# Altium footprint library JACK.PCBLIB: 92 footprints (part 4 of 6)
Each footprint in its own frame and in the unit in brackets; x right, y up, seen from the top. Pads: shape width x height; smd on the part's side, far side on the other; paste and mask are expansions set on the pad; w line width, h text height; cw(c..) or ccw(c..) is an arc to the next point about the centre after c.
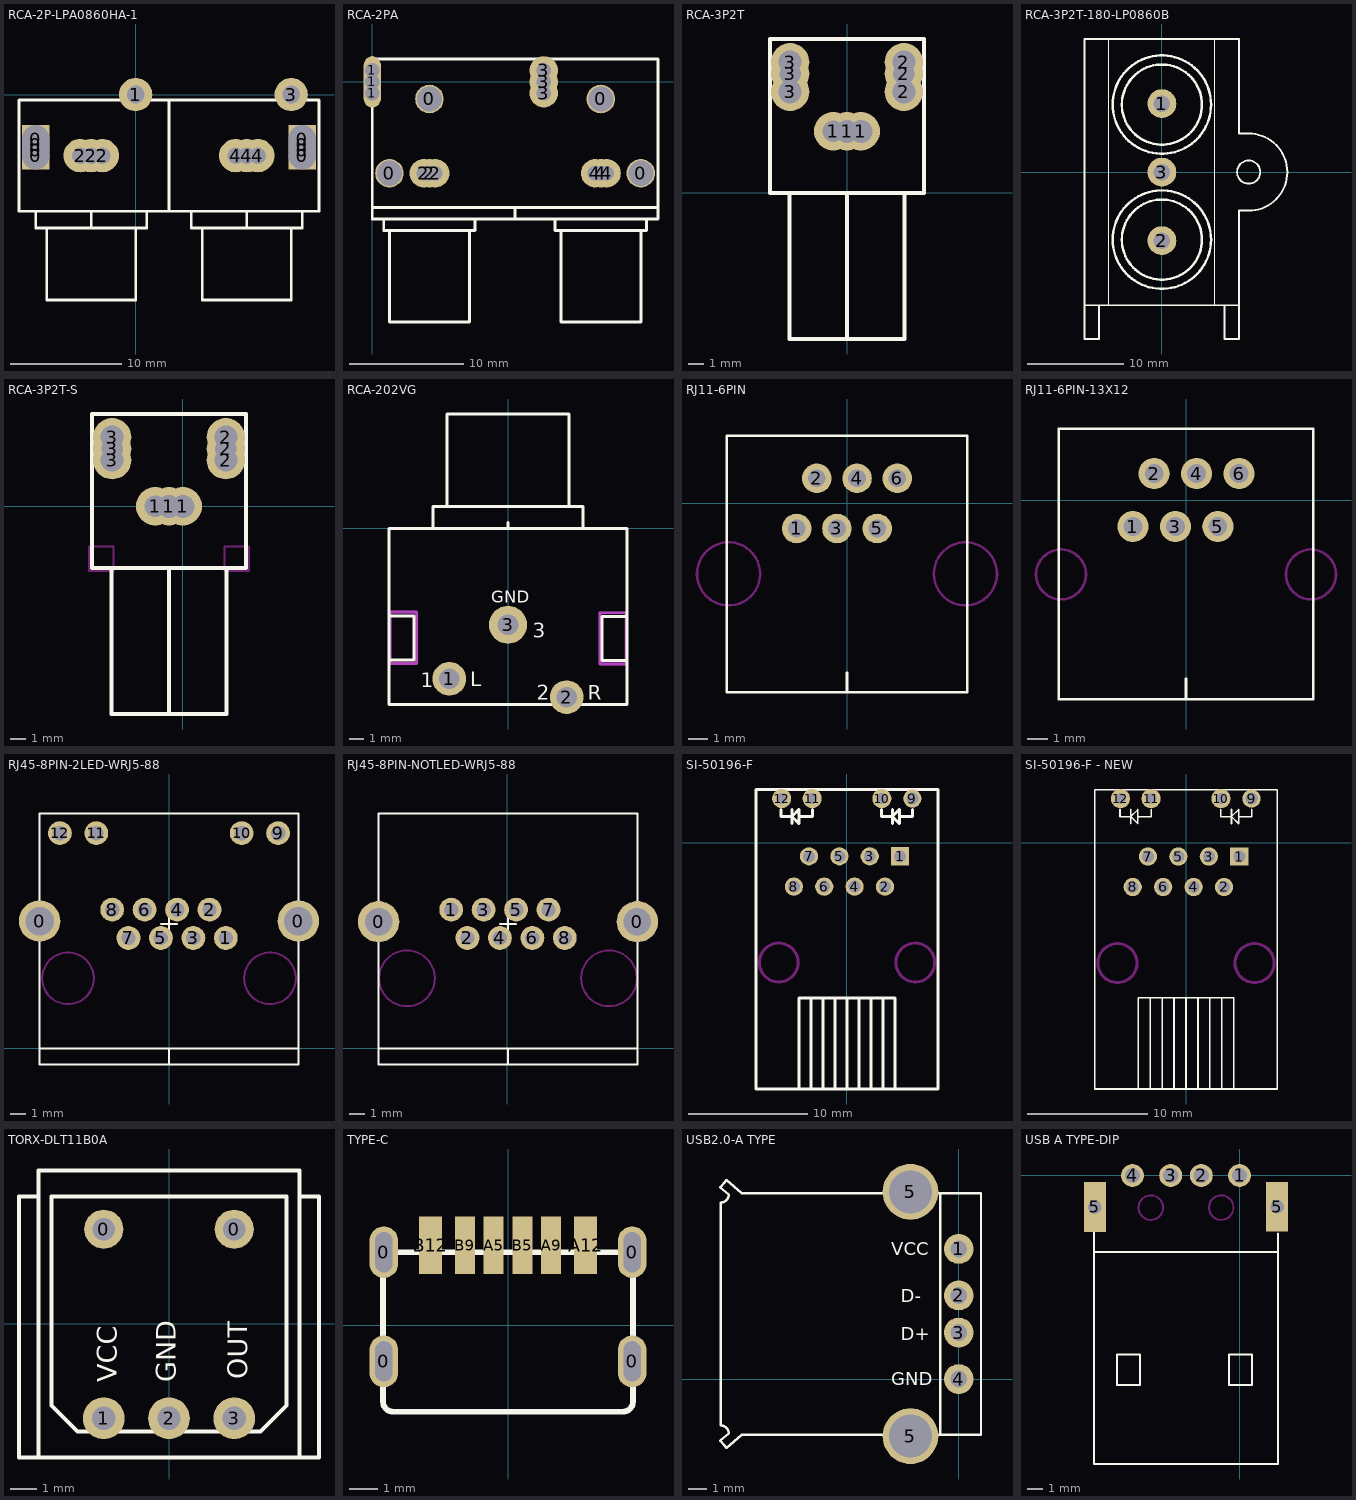
[diagram p3: the footprints below, top view; thin cyan lines are the x and y axes]

## RCA-2P-LPA0860HA-1 [mm]
pads (16):
  rect 2.5x2.5 hole 2.5: 0(-9,-5.5) 0(-9,-5) 0(-9,-4.5) 0(-9,-4) 0(15,-5.5) 0(15,-5) 0(15,-4.5) 0(15,-4)
  round 3 hole 1.6: 1(0,0) 3(14,0)
  round 3 hole 1.5: 2(-5,-5.5) 2(-4,-5.5) 2(-3,-5.5) 4(9,-5.5) 4(10,-5.5) 4(11,-5.5)
TopOverlay:
  lines w0.254: -9,-10.5 -9,-12 -4,-12 ; -8,-12 -8,-18.5 0,-18.5 0,-12 ; -4,-10.5 -4,-12 ; 1,-10.5 1,-12 -4,-12 ; 4.5,-10.5 3,-10.5 ; 5,-10.5 5,-12 10,-12 ; 6,-12 6,-18.5 14,-18.5 14,-12 ; 10,-10.5 10,-12 ; 15,-10.5 15,-12 10,-12 ; 3,-10.5 3,-0.5 ; 3,-10.5 16.5,-10.5 16.5,-0.5 3,-0.5 ; 3,-10.5 -10,-10.5 -10.5,-10.5 -10.5,-0.5 1,-0.5 3,-0.5

## RCA-2PA [mm]
pads (16):
  round 2.5 hole 2.2: 0(1.5,-8) 0(5,-1.5) 0(20,-1.5) 0(23.5,-8)
  oval 1.5x2.5 hole 1.3: 1(0,-1) 1(0,0) 1(0,1)
  round 2.5 hole 1.3: 2(4.5,-8) 2(5,-8) 2(5.5,-8) 3(15,-1) 3(15,0) 3(15,1) 4(19.5,-8) 4(20,-8) 4(20.5,-8)
TopOverlay:
  lines w0.25: 0,-11 12.5,-11 ; 1,-12 1,-13 9,-13 9,-12 ; 1.5,-13 1.5,-21 8.5,-21 8.5,-13 ; 16,-12 16,-13 24,-13 24,-12 ; 16.5,-13 16.5,-21 23.5,-21 23.5,-13 ; 25,-11 12.5,-11 ; 12.5,-12 12.5,-11 ; 12.5,-12 0,-12 0,2 25,2 25,-12 12.5,-12

## RCA-3P2T [mm]
pads (9):
  round 2.5 hole 1.4: 1(-0.9,4) 2(3.7,7.75) 3(-3.7,7.75)
  round 2.5 hole 1.5: 1(0,4) 1(0.9,4) 2(3.7,6.57) 2(3.7,8.5) 3(-3.7,6.57) 3(-3.7,8.5)
TopOverlay:
  lines w0.254: -3.75,-0.15 -3.75,-9.5 3.75,-9.5 3.75,0 ; 0,-9.5 0,0 ; -5,0 5,0 5,10 -5,10 -5,0

## RCA-3P2T-180-LP0860B [mm]
pads (3):
  round 3 hole 1.7: 1(0,7.1) 2(0,-7.1) 3(0,0)
TopOverlay:
  circle w0.254: c0,-7 r5.1
  circle w0.254: c0,7 r5.1
  circle w0.254: c0,7 r4.15
  circle w0.254: c0,-7 r4.15
  circle w0.2: c9,0 r1.2
  lines w0.127: -5.5,-13.8 -5.5,13.8 ; 5.5,-13.8 5.5,13.8
  lines w0.2: -6.5,-13.8 -6.5,-17.3 -8,-17.3 -8,-13.8 ; 6.5,-13.8 6.5,-17.3 8,-17.3 8,-13.8 ; -8,-13.8 8,-13.8 ; -8,-13.8 -8,13.8 8,13.8 8,4 9,4 cw(c9,0) 9,-4 8,-4 8,-13.8

## RCA-3P2T-S [mm]
pads (9):
  round 2.5 hole 1.4: 1(-1.8,0) 2(2.8,3.75) 3(-4.6,3.75)
  round 2.5 hole 1.5: 1(-0.9,0) 1(0,0) 2(2.8,3) 2(2.8,4.5) 3(-4.6,3) 3(-4.6,4.5)
TopOverlay:
  lines w0.254: -4.65,-4.15 -4.65,-13.5 2.85,-13.5 2.85,-4 ; -0.9,-13.5 -0.9,-4 ; -5.9,-4 -5.9,6 4.1,6 4.1,-4 -5.9,-4
KeepOutLayer:
  lines w0.127: -6.1,-4.2 -4.5,-4.2 -4.5,-2.6 -6.1,-2.6 -6.1,-4.2 ; 2.7,-4.2 4.3,-4.2 4.3,-2.6 2.7,-2.6 2.7,-4.2

## RCA-202VG [mm]
pads (3):
  round 2.3 hole 1.4: 1(-4,-10.25) 2(4,-11.5)
  round 2.6 hole 1.4: 3(0,-6.57)
TopOverlay:
  lines w0.2: -8.1,-5.975 -6.4,-5.975 -6.4,-8.975 -8.075,-8.975 ; -5.1,0 -5.1,1.5 5.1,1.5 5.1,0 ; -4.15,1.5 -4.15,7.8 4.15,7.8 4.15,1.5 ; 0,0 0,0.4 ; 8.1,-9.025 8.075,-9 6.4,-9 6.4,-6 8.1,-6 ; -8.1,-12 -8.1,0 8.1,0 8.1,-12 -8.1,-12
  text "3" at 1.7,-7.45 h1
  text "1" at -5.95,-10.825 h1
  text "2" at 1.95,-11.675 h1
  text "L" at -2.575,-10.75 h1
  text "R" at 5.425,-11.675 h1
  text "GND" at -1.125,-5.05 h0.81
KeepOutLayer:
  lines w0.2: -8.05,-9.2 -8.05,-5.7 -6.25,-5.7 -6.25,-9.2 -8.05,-9.2 ; 6.275,-9.25 6.275,-5.75 8.025,-5.75 8.025,-9.25 6.275,-9.25
Mechanical1:
  lines w0.2: -8.05,-9.2 -6.25,-9.2 -6.25,-5.7 -8.05,-5.7 -8.05,-9.2 ; 6.275,-9.25 8.075,-9.25 8.075,-5.75 6.275,-5.75 6.275,-9.25

## RJ11-6PIN [mm]
pads (6):
  round 1.5 hole 0.9: 1(-2.55,-1.27) 2(-1.53,1.27) 3(-0.51,-1.27) 4(0.51,1.27) 5(1.53,-1.27) 6(2.55,1.27)
TopOverlay:
  lines w0.127: 0,-9.57 0,-8.57 ; -6.1,-9.57 -6.1,3.43 6.1,3.43 6.1,-9.57 -6.1,-9.57
KeepOutLayer:
  circle w0.127: c-6,-3.57 r1.6
  circle w0.127: c6,-3.57 r1.6

## RJ11-6PIN-13X12 [mm]
pads (6):
  round 1.5 hole 0.9: 1(-2.55,-1.27) 2(-1.53,1.27) 3(-0.51,-1.27) 4(0.51,1.27) 5(1.53,-1.27) 6(2.55,1.27)
TopOverlay:
  lines w0.127: 0,-9.57 0,-8.57 ; -6.1,-9.57 -6.1,3.43 6.1,3.43 6.1,-9.57 -6.1,-9.57
KeepOutLayer:
  circle w0.127: c-6,-3.57 r1.2
  circle w0.127: c6,-3.57 r1.2

## RJ45-8PIN-2LED-WRJ5-88 [mm] "RJ45-8PIN-2LED-WRJ5-88"
pads (14):
  round 2.6 hole 1.8: 0(-8.13,8) 0(8.13,8)
  round 1.5 hole 0.9: 1(3.57,6.94) 2(2.55,8.72) 3(1.53,6.94) 4(0.51,8.72) 5(-0.51,6.94) 6(-1.53,8.72) 7(-2.55,6.94) 8(-3.57,8.72) 9(6.86,13.53) 10(4.57,13.53) 11(-4.57,13.53) 12(-6.86,13.53)
TopOverlay:
  lines w0.127: -8.13,0 8.13,0 ; -0.5,7.83 0.5,7.83 ; 0,-1 0,0 ; 0,7.33 0,8.33 ; -8.13,-1 8.13,-1 8.13,14.75 -8.13,14.75 -8.13,-1
KeepOutLayer:
  circle w0.127: c-6.35,4.4 r1.625
  circle w0.127: c6.35,4.4 r1.625

## RJ45-8PIN-NOTLED-WRJ5-88 [mm] "RJ45-8PIN-NOTLED-WRJ5-88"
pads (10):
  round 2.6 hole 1.727: 0(-8.08,7.96) 0(8.18,7.96)
  round 1.5 hole 0.9: 1(-3.52,8.72) 2(-2.5,6.94) 3(-1.48,8.72) 4(-0.46,6.94) 5(0.56,8.72) 6(1.58,6.94) 7(2.6,8.72) 8(3.62,6.94)
TopOverlay:
  lines w0.127: -8.08,0 8.18,0 ; -0.45,7.83 0.55,7.83 ; 0.05,-1 0.05,0 ; 0.05,7.33 0.05,8.33 ; -8.08,-1 8.18,-1 8.18,14.75 -8.08,14.75 -8.08,-1
KeepOutLayer:
  circle w0.127: c-6.3,4.4 r1.752
  circle w0.127: c6.4,4.4 r1.752

## SI-50196-F [mm]
pads (12):
  rect 1.524x1.524 hole 1: 1(4.445,-1.145)
  round 1.524 hole 1: 2(3.175,-3.685) 3(1.905,-1.145) 4(0.635,-3.685) 5(-0.635,-1.145) 6(-1.905,-3.685) 7(-3.175,-1.145) 8(-4.445,-3.685) 9(5.465,3.685)
  round 1.6 hole 0.9: 10(2.915,3.685) 11(-2.915,3.685) 12(-5.465,3.685)
TopOverlay:
  lines w0.254: -5.505,2.785 -5.505,2.185 -4.605,2.185 ; -4.605,1.585 -4.605,2.785 ; -4.005,2.185 -2.905,2.185 -2.905,2.785 ; -4,-20.615 -4,-13 4,-13 4,-20.615 ; -3,-20.615 -3,-13 ; -2,-20.615 -2,-13 ; -1,-20.615 -1,-13 ; 0,-20.615 0,-13 ; 1,-20.615 1,-13 ; 2,-20.615 2,-13 ; 2.895,2.785 2.895,2.185 3.795,2.185 ; 3,-20.615 3,-13 ; 3.795,1.585 3.795,2.785 ; 4.395,2.185 5.495,2.185 5.495,2.785 ; -4.605,2.185 -4.005,2.785 -4.005,1.585 -4.605,2.185 ; 3.795,2.185 4.395,2.785 4.395,1.585 3.795,2.185 ; -7.605,-20.615 -7.605,4.425 7.605,4.425 7.605,-20.615 -7.605,-20.615
KeepOutLayer:
  circle w0.254: c5.715,-10.035 r1.625
  circle w0.254: c-5.715,-10.035 r1.625

## SI-50196-F - NEW [mm] "SI-50196-F - NEW"
pads (12):
  rect 1.524x1.524 hole 1: 1(4.445,-1.145)
  round 1.524 hole 1: 2(3.175,-3.685) 3(1.905,-1.145) 4(0.635,-3.685) 5(-0.635,-1.145) 6(-1.905,-3.685) 7(-3.175,-1.145) 8(-4.445,-3.685) 9(5.465,3.685)
  round 1.6 hole 0.9: 10(2.915,3.685) 11(-2.915,3.685) 12(-5.465,3.685)
TopOverlay:
  lines w0.127: -5.505,2.785 -5.505,2.185 -4.605,2.185 ; -4.605,1.585 -4.605,2.785 ; -4.005,2.185 -2.905,2.185 -2.905,2.785 ; -4,-20.535 -4,-12.92 4,-12.92 4,-20.535 ; -3,-20.535 -3,-12.92 ; -2,-20.535 -2,-12.92 ; -1,-20.535 -1,-12.92 ; 0,-20.535 0,-12.92 ; 1,-20.535 1,-12.92 ; 2,-20.535 2,-12.92 ; 2.895,2.785 2.895,2.185 3.795,2.185 ; 3,-20.535 3,-12.92 ; 3.795,1.585 3.795,2.785 ; 4.395,2.185 5.495,2.185 5.495,2.785 ; -4.605,2.185 -4.005,2.785 -4.005,1.585 -4.605,2.185 ; 3.795,2.185 4.395,2.785 4.395,1.585 3.795,2.185 ; -7.605,-20.535 -7.605,4.425 7.605,4.425 7.605,-20.535 -7.605,-20.535
KeepOutLayer:
  circle w0.254: c5.715,-10.035 r1.625
  circle w0.254: c-5.715,-10.035 r1.625

## TORX-DLT11B0A [mm]
pads (5):
  round 1.5 hole 0.85: 0(-2.5,3.625) 0(2.5,3.625)
  round 1.6 hole 0.9: 1(-2.5,-3.625) 2(0,-3.625) 3(2.5,-3.625)
TopOverlay:
  lines w0.152: -5,4.875 -5.75,4.875 -5.75,-5.125 -5,-5.125 ; 5,4.875 5.75,4.875 5.75,-5.125 5,-5.125 ; -5,-5.125 -5,5.875 5,5.875 5,-5.125 ; -5,-5.125 5,-5.125 ; -4.5,-3.125 -4.5,4.875 4.5,4.875 4.5,-3.125 3.5,-4.125 -3.5,-4.125 -4.5,-3.125
  text "VCC" at -2,-2.25 h0.76
  text "GND" at 0.25,-2.25 h0.76
  text "OUT" at 3,-2.125 h0.76

## TYPE-C [mm] "TYPE-C"
pads (10):
  oval 1x1.8 hole 0.6 slot 1.4 at 90 deg: 0(-4.32,-1.25) 0(-4.32,2.55) 0(4.32,-1.25) 0(4.32,2.55)
  rect 0.7x2 smd: A5(-0.5,2.8) A9(1.5,2.8) B5(0.5,2.8) B9(-1.5,2.8)
  rect 0.8x2 smd: A12(2.7,2.8) B12(-2.7,2.8)
TopOverlay:
  lines w0.2: -4.35,-2.65 ccw(c-4,-2.65) -4,-3 4,-3 ccw(c4,-2.65) 4.35,-2.65 4.35,-2.325 4.35,2.55 -4.35,2.55 -4.35,-2.325 -4.35,-2.65

## USB2.0-A TYPE [mm] "USB2.0-A TYPE"
pads (6):
  round 1.6 hole 0.9: 1(0,7) 2(0,4.5) 3(0,2.5) 4(0,0)
  round 3 hole 2.3: 5(-2.6,-3.07) 5(-2.6,10.07)
TopOverlay:
  lines w0.127: -11.685,-3.002 -12.49,-3.711 -12.828,-3.317 -12.375,-2.925 ccw(c-12.8,-2.925) -12.8,-2.5 -12.8,9.5 ccw(c-12.8,9.925) -12.375,9.925 -12.828,10.317 -12.49,10.711 -11.685,10.002 ; -11.685,-3 1.2,-3 1.2,10 -11.685,10 ; -1,-3 -1,10
  text "D+" at -3.125,2.1 h0.7
  text "D-" at -3.125,4.125 h0.7
  text "GND" at -3.625,-0.325 h0.7
  text "VCC" at -3.625,6.65 h0.7

## USB A TYPE-DIP [mm]
pads (6):
  round 1.5 hole 1: 1(0,0) 2(-2.5,0) 3(-4.5,0) 4(-7,0)
  rect 1.422x3.251 hole 0.889: 5(-9.45,-2.059) 5(2.45,-2.05)
TopOverlay:
  lines w0.127: -9.5,-5 2.5,-5 ; -9.5,-3.7 -9.5,-18.85 2.5,-18.85 2.5,-3.8 ; -8,-13.7 -6.5,-13.7 -6.5,-11.7 -8,-11.7 -8,-13.7 ; -0.7,-13.7 0.8,-13.7 0.8,-11.7 -0.7,-11.7 -0.7,-13.7
KeepOutLayer:
  circle w0.127: c-1.2,-2.1 r0.8
  circle w0.127: c-5.8,-2.1 r0.8
  lines w0.127: -9.775,-3.075 ccw(c-9.45,-2.75) -9.125,-3.075 -9.125,-1.043 ccw(c-9.45,-1.368) -9.775,-1.043 -9.775,-3.075 ; 2.125,-3.075 ccw(c2.45,-2.75) 2.775,-3.075 2.775,-1.043 ccw(c2.45,-1.368) 2.125,-1.043 2.125,-3.075